# EAGLE library part H3LIS331 (library H3LIS331)
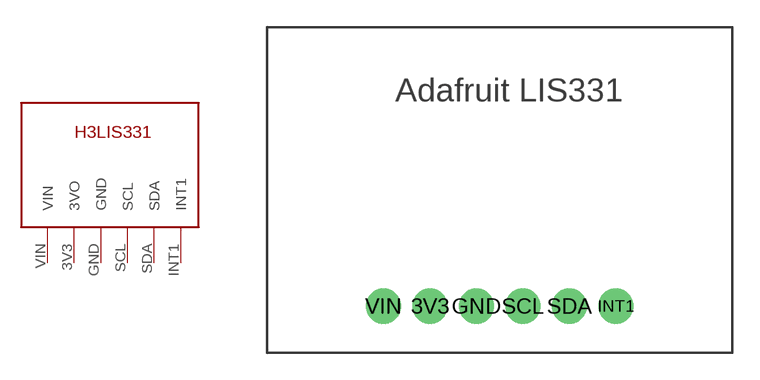
[diagram p0: symbol with the pads of H3LIS331; footprint H3LIS331]

Designator prefix -

## H3LIS331  [H3LIS331]
3V3  3VO
GND  GND
INT1  INT1
SCL  SCL
SDA  SDA
VIN  VIN

## Footprint H3LIS331 (pad centres in mm)
drill 1 pad 1.93: 3V3 8.89,2.54; GND 11.43,2.54; INT1 19.05,2.54; SCL 13.97,2.54; SDA 16.51,2.54; VIN 6.35,2.54